# Altium footprint library Macropad.PcbLib: 4 footprints
Each footprint in its own frame and in the unit in brackets; x right, y up, seen from the top. Pads: shape width x height; smd on the part's side, far side on the other; paste and mask are expansions set on the pad; w line width, h text height; cw(c..) or ccw(c..) is an arc to the next point about the centre after c.
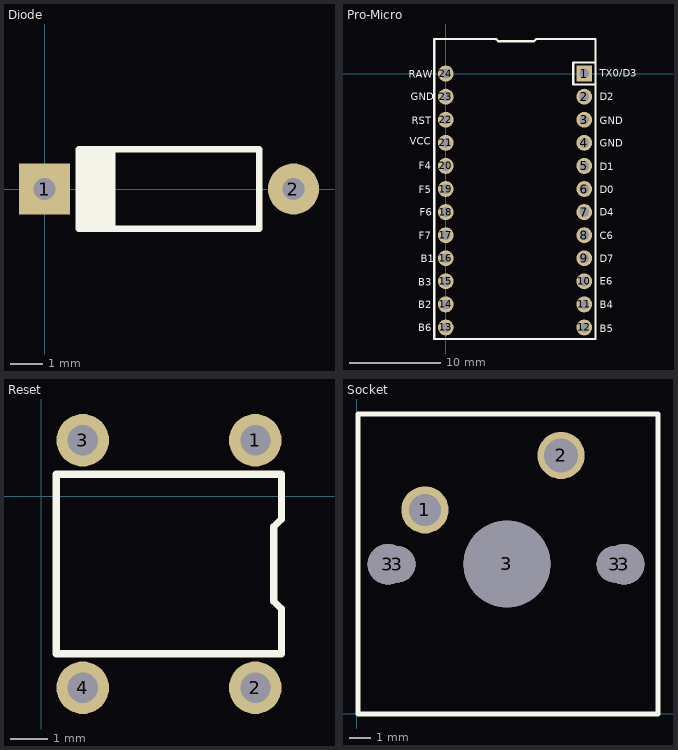
[diagram p0: the footprints below, top view; thin cyan lines are the x and y axes]

## Diode [mm]
pads (2):
  rect 1.6x1.6 hole 0.7: 1(0,0)
  round 1.6 hole 0.7: 2(7.8,0)
Top Overlay:
  lines w0.2: 1.25,-1.25 1.25,1.25 ; 1.425,-1.25 1.425,1.25 ; 1.6,-1.25 1.6,1.25 ; 1.775,-1.25 1.775,1.25 ; 1.95,-1.25 1.95,1.25 ; 2.125,-1.25 2.125,1.25 ; 1.075,-1.25 1.075,1.25 6.725,1.25 6.725,-1.25 1.075,-1.25

## Pro-Micro [mm]
pads (24):
  rect 1.753x1.753 hole 1.092: 1(15.24,0)
  round 1.753 hole 1.092: 2(15.24,-2.54) 3(15.24,-5.08) 4(15.24,-7.62) 5(15.24,-10.16) 6(15.24,-12.7) 7(15.24,-15.24) 8(15.24,-17.78) 9(15.24,-20.32) 10(15.24,-22.86) 11(15.24,-25.4) 12(15.24,-27.94) 13(0,-27.94) 14(0,-25.4) 15(0,-22.86) 16(0,-20.32) 17(0,-17.78) 18(0,-15.24) 19(0,-12.7) 20(0,-10.16) 21(0,-7.62) 22(0,-5.08) 23(0,-2.54) 24(0,0)
Top Overlay:
  lines w0.254: 16.45,-1.2 14.025,-1.2 14.025,1.225 16.475,1.225 ; -1.27,-29.21 16.475,-29.21 16.475,3.81 12.192,3.81 9.97,3.81 9.716,3.556 5.779,3.556 5.524,3.81 3.302,3.81 -1.27,3.81 -1.27,-29.21
  text "F6" at -2.85,-15.65 h0.8
  text "GND" at 16.95,-5.55 h0.8
  text "RAW" at -4.05,-0.45 h0.8
  text "GND" at -3.85,-2.95 h0.8
  text "RST" at -3.75,-5.55 h0.8
  text "VCC" at -3.95,-7.85 h0.8
  text "F4" at -2.95,-10.55 h0.8
  text "F5" at -2.95,-13.15 h0.8
  text "F7" at -2.95,-18.25 h0.8
  text "B1" at -2.75,-20.75 h0.8
  text "B3" at -3.05,-23.35 h0.8
  text "B2" at -3.05,-25.85 h0.8
  text "B6" at -3.05,-28.35 h0.8
  text "D2" at 16.95,-2.95 h0.8
  text "GND" at 16.95,-8.05 h0.8
  text "D1" at 16.95,-10.65 h0.8
  text "D0" at 16.95,-13.15 h0.8
  text "D4" at 16.95,-15.65 h0.8
  text "C6" at 16.95,-18.25 h0.8
  text "D7" at 16.95,-20.75 h0.8
  text "TX0/D3" at 16.95,-0.336 h0.8
  text "E6" at 16.95,-23.25 h0.8
  text "B4" at 16.95,-25.85 h0.8
  text "B5" at 16.95,-28.45 h0.8

## Reset [mm]
pads (4):
  round 1.4 hole 0.8: 1(5.7,1.5) 2(5.7,-5.1) 3(1.1,1.5) 4(1.1,-5.1)
Top Overlay:
  lines w0.2: 0.4,-4.2 6.4,-4.2 6.4,-3 6.2,-2.8 6.2,-0.8 6.4,-0.6 6.4,0.6 0.4,0.6 0.4,-4.2

## Socket [mm]
pads (7):
  round 2.2 hole 1.5: 1(3.175,9.525)
  round 2.2 hole 1.6: 2(9.525,12.065)
  round 1.9 hole 1.9: 3(1.45,6.985) 3(12.46,6.985)
  round 1.7 hole 1.7: 3(1.88,6.985) 3(12.04,6.985)
  round 4.05 hole 4.05: 3(7,7)
Top Overlay:
  region: 0.05,0
  lines w0.254: 0.05,0 14.05,0 14.05,14 0.05,14 0.05,0